# Altium integrated library Renesas Transistor.IntLib: 835 symbols (part 17 of 18)
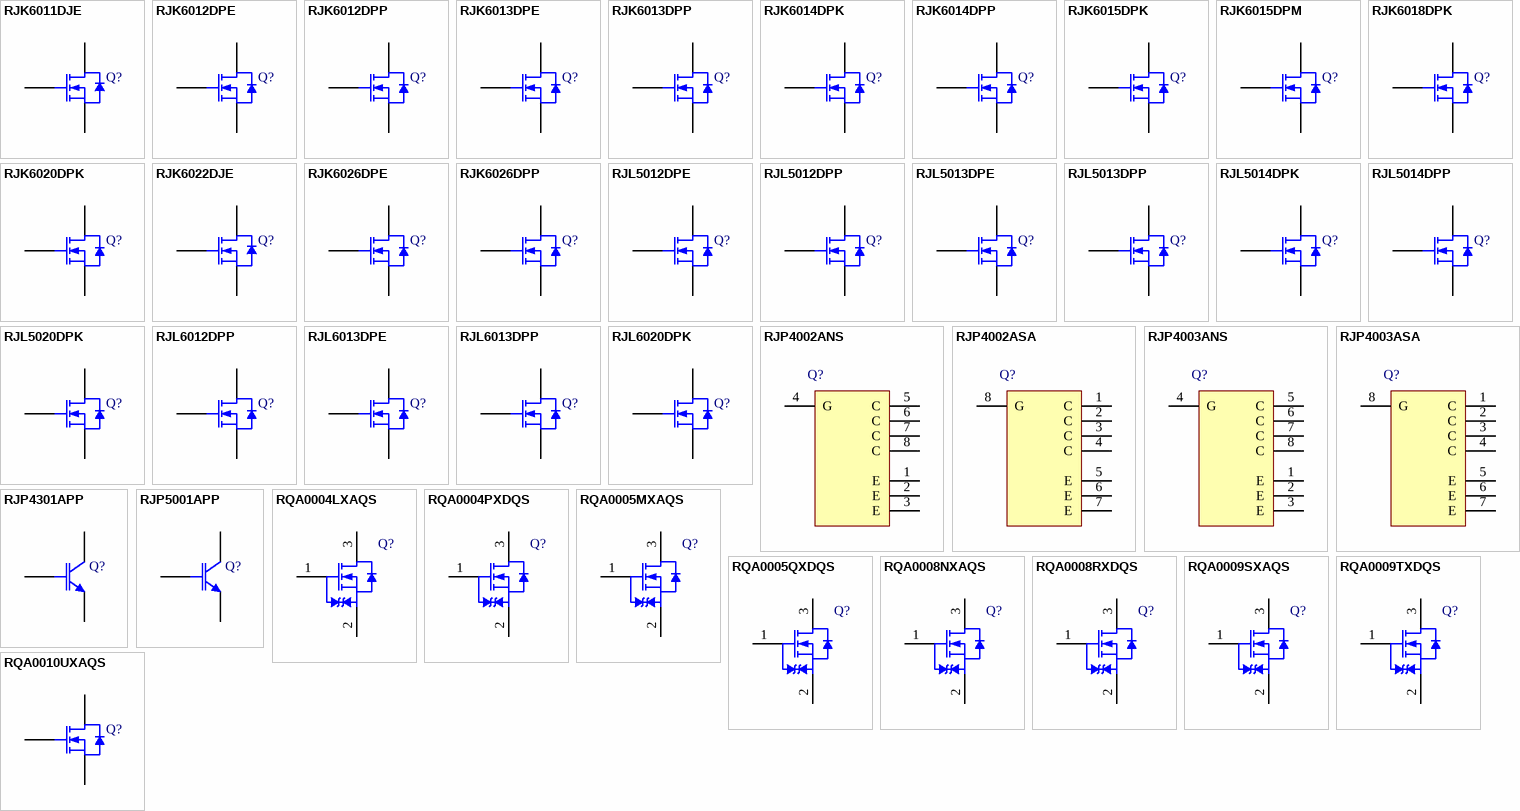
[diagram p38: symbols RJK6011DJE to RQA0010UXAQS]

## RJP4002ASA
designator Q?
Nch IGBT for Strobe Flash; Published: 30-Oct-2009; DatasheetVersion: Rev.1.00, Oct-2006; PackageVersion: Sep-2007; PackageReference: PTSP0008JB-B; Publisher: Altium Limited; PackageDescription: 8-Pin Plastic Thin Small Outline Package 0.65 mm Pitch (TSSOP-8); Code_JEITA: P-TSSOP8-4.4×3-0.65; ComponentLink1Description: Manufacturer Link; ComponentLink1URL: http://sg.renesas.com/fmwk.jsp?cnt=discrete_category_landing.jsp&fp=/products/discrete/; ComponentLink2Description: Datasheet; ComponentLink2URL: http://documentation.renesas.com/eng/products/transistor/rej03g1473_rjp4002asads.pdf; ComponentLink3Description: Packaging Specification; ComponentLink3URL: http://sg.renesas.com/media/products/common_info/package/pdf/transistor/code/ptsp0008jb_b.pdf
footprint PTSP0008JB-B_N (TSOP, 8-Leads, Body 3x4.4mm, Pitch 0.65mm, IPC Medium Density)
footprint PTSP0008JB-B_L (TSOP, 8-Leads, Body 3x4.4mm, Pitch 0.65mm, IPC High Density)
footprint PTSP0008JB-B_M (TSOP, 8-Leads, Body 3x4.4mm, Pitch 0.65mm, IPC Low Density)
pins: 1 C, 2 C, 3 C, 4 C, 5 E, 6 E, 7 E, 8 G

## RJP4003ANS
designator Q?
Nch IGBT for Strobe Flash; Published: 30-Oct-2009; DatasheetVersion: Rev.2.00, Nov-2008; PackageVersion: Jul-2006; PackageReference: PVSN0008JA-A; Publisher: Altium Limited; PackageDescription: 8-Pin Plastic Dual Lead-Flat Package 0.65 mm Pitch (VSON-8); Code_JEITA: P-VSON8-3x4.4-0.65; ComponentLink1Description: Manufacturer Link; ComponentLink1URL: http://sg.renesas.com/fmwk.jsp?cnt=discrete_category_landing.jsp&fp=/products/discrete/; ComponentLink2Description: Datasheet; ComponentLink2URL: http://documentation.renesas.com/eng/products/transistor/rej03g1474_rjp4003ansds.pdf; ComponentLink3Description: Packaging Specification; ComponentLink3URL: http://sg.renesas.com/media/products/common_info/package/pdf/transistor/code/pvsn0008ja_a.pdf
footprint PVSN0008JA-A (SOP, 8-Flat Leads, Body 3x4.4x0.9mm, Pitch 0.65mm)
pins: 1 E, 2 E, 3 E, 4 G, 5 C, 6 C, 7 C, 8 C

## RJP4003ASA
designator Q?
Nch IGBT for Strobe Flash; Published: 30-Oct-2009; DatasheetVersion: Rev.2.00, Nov-2008; PackageVersion: Sep-2007; PackageReference: PTSP0008JB-B; Publisher: Altium Limited; PackageDescription: 8-Pin Plastic Thin Small Outline Package 0.65 mm Pitch (TSSOP-8); Code_JEITA: P-TSSOP8-4.4×3-0.65; ComponentLink1Description: Manufacturer Link; ComponentLink1URL: http://sg.renesas.com/fmwk.jsp?cnt=discrete_category_landing.jsp&fp=/products/discrete/; ComponentLink2Description: Datasheet; ComponentLink2URL: http://documentation.renesas.com/eng/products/transistor/rej03g1475_rjp4003asads.pdf; ComponentLink3Description: Packaging Specification; ComponentLink3URL: http://sg.renesas.com/media/products/common_info/package/pdf/transistor/code/ptsp0008jb_b.pdf
footprint PTSP0008JB-B_N (TSOP, 8-Leads, Body 3x4.4mm, Pitch 0.65mm, IPC Medium Density)
footprint PTSP0008JB-B_L (TSOP, 8-Leads, Body 3x4.4mm, Pitch 0.65mm, IPC High Density)
footprint PTSP0008JB-B_M (TSOP, 8-Leads, Body 3x4.4mm, Pitch 0.65mm, IPC Low Density)
pins: 1 C, 2 C, 3 C, 4 C, 5 E, 6 E, 7 E, 8 G

## RJP4301APP
designator Q?
Nch IGBT for Strobe Flash; Published: 30-Oct-2009; DatasheetVersion: Rev.2.00, Feb-2009; PackageVersion: Sep-2005; PackageReference: PRSS0003AB-A; Publisher: Altium Limited; PackageDescription: TO, Thru-Hole, Vertical, Heatsink Mounted; 3 In-Line Leads; Pitch 2.54 mm (TO-220FN); ComponentLink1Description: Manufacturer Link; ComponentLink1URL: http://sg.renesas.com/fmwk.jsp?cnt=discrete_category_landing.jsp&fp=/products/discrete/; ComponentLink2Description: Datasheet; ComponentLink2URL: http://documentation.renesas.com/eng/products/transistor/rej03g1709_rjp4301appds.pdf; ComponentLink3Description: Packaging Specification; ComponentLink3URL: http://sg.renesas.com/media/products/common_info/package/pdf/transistor/code/prss0003ab_a.pdf
footprint PRSS0003AB-A (TO, Thru-Hole, Vertical, Heatsink Mounted; 3 In-Line Leads; Pitch 2.54 mm)
pins: 1 G, 2 C, 3 E

## RJP5001APP
designator Q?
Nch IGBT for Strobe Flash; Published: 30-Oct-2009; DatasheetVersion: Rev.1.00, Jul-2008; PackageVersion: Sep-2005; PackageReference: PRSS0003AB-A; Publisher: Altium Limited; PackageDescription: TO, Thru-Hole, Vertical, Heatsink Mounted; 3 In-Line Leads; Pitch 2.54 mm (TO-220FN); ComponentLink1Description: Manufacturer Link; ComponentLink1URL: http://sg.renesas.com/fmwk.jsp?cnt=discrete_category_landing.jsp&fp=/products/discrete/; ComponentLink2Description: Datasheet; ComponentLink2URL: http://documentation.renesas.com/eng/products/transistor/rej03g1710_rjp5001appds.pdf; ComponentLink3Description: Packaging Specification; ComponentLink3URL: http://sg.renesas.com/media/products/common_info/package/pdf/transistor/code/prss0003ab_a.pdf
footprint PRSS0003AB-A (TO, Thru-Hole, Vertical, Heatsink Mounted; 3 In-Line Leads; Pitch 2.54 mm)
pins: 1 G, 2 C, 3 E

## RQA0004LXAQS
designator Q?
Silicon N-Channel MOSFET; Published: 30-Oct-2009; DatasheetVersion: Rev.1.00, Jul-2007; PackageVersion: Jan-2005; PackageReference: PLZZ0004CA-A; Publisher: Altium Limited; PackageDescription: 3-Pin Plastic SOT-89 Package 1.5 mm Pitch, 4 mm Lead Span; Code_JEITA: SC-62; Code_IPC: SOT89; ComponentLink1Description: Manufacturer Link; ComponentLink1URL: http://sg.renesas.com/fmwk.jsp?cnt=discrete_category_landing.jsp&fp=/products/discrete/; ComponentLink2Description: Datasheet; ComponentLink2URL: http://documentation.renesas.com/eng/products/transistor/rej03g1567_rqa0004lxaqsds.pdf; ComponentLink3Description: Packaging Specification; ComponentLink3URL: http://sg.renesas.com/media/products/common_info/package/pdf/transistor/code/plzz0004ca_a.pdf
footprint PLZZ0004CA-A_N (SOT89, 3-Leads, Body 4.5x2.5 mm, Pitch 1.5mm, Lead Span 4mm, IPC Medium Density)
footprint PLZZ0004CA-A_L (SOT89, 3-Leads, Body 4.5x2.5 mm, Pitch 1.5mm, Lead Span 4mm, IPC High Density)
footprint PLZZ0004CA-A_M (SOT89, 3-Leads, Body 4.5x2.5 mm, Pitch 1.5mm, Lead Span 4mm, IPC Low Density)
pins: 1 G, 2 S, 3 D

## RQA0004PXDQS
designator Q?
Silicon N-Channel MOSFET; Published: 30-Oct-2009; DatasheetVersion: Rev.1.00, Dec-2006; PackageVersion: Jan-2005; PackageReference: PLZZ0004CA-A; Publisher: Altium Limited; PackageDescription: 3-Pin Plastic SOT-89 Package 1.5 mm Pitch, 4 mm Lead Span; Code_JEITA: SC-62; Code_IPC: SOT89; ComponentLink1Description: Manufacturer Link; ComponentLink1URL: http://sg.renesas.com/fmwk.jsp?cnt=discrete_category_landing.jsp&fp=/products/discrete/; ComponentLink2Description: Datasheet; ComponentLink2URL: http://documentation.renesas.com/eng/products/transistor/rej03g1489_rqa0004pxdqsds.pdf; ComponentLink3Description: Packaging Specification; ComponentLink3URL: http://sg.renesas.com/media/products/common_info/package/pdf/transistor/code/plzz0004ca_a.pdf
footprint PLZZ0004CA-A_N (SOT89, 3-Leads, Body 4.5x2.5 mm, Pitch 1.5mm, Lead Span 4mm, IPC Medium Density)
footprint PLZZ0004CA-A_L (SOT89, 3-Leads, Body 4.5x2.5 mm, Pitch 1.5mm, Lead Span 4mm, IPC High Density)
footprint PLZZ0004CA-A_M (SOT89, 3-Leads, Body 4.5x2.5 mm, Pitch 1.5mm, Lead Span 4mm, IPC Low Density)
pins: 1 G, 2 S, 3 D

## RQA0005MXAQS
designator Q?
Silicon N-Channel MOSFET; Published: 30-Oct-2009; DatasheetVersion: Rev.1.00, Jul-2007; PackageVersion: Jan-2005; PackageReference: PLZZ0004CA-A; Publisher: Altium Limited; PackageDescription: 3-Pin Plastic SOT-89 Package 1.5 mm Pitch, 4 mm Lead Span; Code_JEITA: SC-62; Code_IPC: SOT89; ComponentLink1Description: Manufacturer Link; ComponentLink1URL: http://sg.renesas.com/fmwk.jsp?cnt=discrete_category_landing.jsp&fp=/products/discrete/; ComponentLink2Description: Datasheet; ComponentLink2URL: http://documentation.renesas.com/eng/products/transistor/rej03g1568_rqa0005mxaqsds.pdf; ComponentLink3Description: Packaging Specification; ComponentLink3URL: http://sg.renesas.com/media/products/common_info/package/pdf/transistor/code/plzz0004ca_a.pdf
footprint PLZZ0004CA-A_N (SOT89, 3-Leads, Body 4.5x2.5 mm, Pitch 1.5mm, Lead Span 4mm, IPC Medium Density)
footprint PLZZ0004CA-A_L (SOT89, 3-Leads, Body 4.5x2.5 mm, Pitch 1.5mm, Lead Span 4mm, IPC High Density)
footprint PLZZ0004CA-A_M (SOT89, 3-Leads, Body 4.5x2.5 mm, Pitch 1.5mm, Lead Span 4mm, IPC Low Density)
pins: 1 G, 2 S, 3 D

## RQA0005QXDQS
designator Q?
Silicon N-Channel MOSFET; Published: 30-Oct-2009; DatasheetVersion: Rev.1.00, Oct-2006; PackageVersion: Jan-2005; PackageReference: PLZZ0004CA-A; Publisher: Altium Limited; PackageDescription: 3-Pin Plastic SOT-89 Package 1.5 mm Pitch, 4 mm Lead Span; Code_JEITA: SC-62; Code_IPC: SOT89; ComponentLink1Description: Manufacturer Link; ComponentLink1URL: http://sg.renesas.com/fmwk.jsp?cnt=discrete_category_landing.jsp&fp=/products/discrete/; ComponentLink2Description: Datasheet; ComponentLink2URL: http://documentation.renesas.com/eng/products/transistor/rej03g1325_rqa0005qxdqsds.pdf; ComponentLink3Description: Packaging Specification; ComponentLink3URL: http://sg.renesas.com/media/products/common_info/package/pdf/transistor/code/plzz0004ca_a.pdf
footprint PLZZ0004CA-A_N (SOT89, 3-Leads, Body 4.5x2.5 mm, Pitch 1.5mm, Lead Span 4mm, IPC Medium Density)
footprint PLZZ0004CA-A_L (SOT89, 3-Leads, Body 4.5x2.5 mm, Pitch 1.5mm, Lead Span 4mm, IPC High Density)
footprint PLZZ0004CA-A_M (SOT89, 3-Leads, Body 4.5x2.5 mm, Pitch 1.5mm, Lead Span 4mm, IPC Low Density)
pins: 1 G, 2 S, 3 D

## RQA0008NXAQS
designator Q?
Silicon N-Channel MOSFET; Published: 30-Oct-2009; DatasheetVersion: Rev.1.00, Jul-2007; PackageVersion: Jan-2005; PackageReference: PLZZ0004CA-A; Publisher: Altium Limited; PackageDescription: 3-Pin Plastic SOT-89 Package 1.5 mm Pitch, 4 mm Lead Span; Code_JEITA: SC-62; Code_IPC: SOT89; ComponentLink1Description: Manufacturer Link; ComponentLink1URL: http://sg.renesas.com/fmwk.jsp?cnt=discrete_category_landing.jsp&fp=/products/discrete/; ComponentLink2Description: Datasheet; ComponentLink2URL: http://documentation.renesas.com/eng/products/transistor/rej03g1569_rqa0008nxaqsds.pdf; ComponentLink3Description: Packaging Specification; ComponentLink3URL: http://sg.renesas.com/media/products/common_info/package/pdf/transistor/code/plzz0004ca_a.pdf
footprint PLZZ0004CA-A_N (SOT89, 3-Leads, Body 4.5x2.5 mm, Pitch 1.5mm, Lead Span 4mm, IPC Medium Density)
footprint PLZZ0004CA-A_L (SOT89, 3-Leads, Body 4.5x2.5 mm, Pitch 1.5mm, Lead Span 4mm, IPC High Density)
footprint PLZZ0004CA-A_M (SOT89, 3-Leads, Body 4.5x2.5 mm, Pitch 1.5mm, Lead Span 4mm, IPC Low Density)
pins: 1 G, 2 S, 3 D

## RQA0008RXDQS
designator Q?
Silicon N-Channel MOSFET; Published: 30-Oct-2009; DatasheetVersion: Rev.1.00, Oct-2006; PackageVersion: Jan-2005; PackageReference: PLZZ0004CA-A; Publisher: Altium Limited; PackageDescription: 3-Pin Plastic SOT-89 Package 1.5 mm Pitch, 4 mm Lead Span; Code_JEITA: SC-62; Code_IPC: SOT89; ComponentLink1Description: Manufacturer Link; ComponentLink1URL: http://sg.renesas.com/fmwk.jsp?cnt=discrete_category_landing.jsp&fp=/products/discrete/; ComponentLink2Description: Datasheet; ComponentLink2URL: http://documentation.renesas.com/eng/products/transistor/rej03g1326_rqa0008rxdqsds.pdf; ComponentLink3Description: Packaging Specification; ComponentLink3URL: http://sg.renesas.com/media/products/common_info/package/pdf/transistor/code/plzz0004ca_a.pdf
footprint PLZZ0004CA-A_N (SOT89, 3-Leads, Body 4.5x2.5 mm, Pitch 1.5mm, Lead Span 4mm, IPC Medium Density)
footprint PLZZ0004CA-A_L (SOT89, 3-Leads, Body 4.5x2.5 mm, Pitch 1.5mm, Lead Span 4mm, IPC High Density)
footprint PLZZ0004CA-A_M (SOT89, 3-Leads, Body 4.5x2.5 mm, Pitch 1.5mm, Lead Span 4mm, IPC Low Density)
pins: 1 G, 2 S, 3 D

## RQA0009SXAQS
designator Q?
Silicon N-Channel MOSFET; Published: 30-Oct-2009; DatasheetVersion: Rev.1.00, Jul-2007; PackageVersion: Jan-2005; PackageReference: PLZZ0004CA-A; Publisher: Altium Limited; PackageDescription: 3-Pin Plastic SOT-89 Package 1.5 mm Pitch, 4 mm Lead Span; Code_JEITA: SC-62; Code_IPC: SOT89; ComponentLink1Description: Manufacturer Link; ComponentLink1URL: http://sg.renesas.com/fmwk.jsp?cnt=discrete_category_landing.jsp&fp=/products/discrete/; ComponentLink2Description: Datasheet; ComponentLink2URL: http://documentation.renesas.com/eng/products/transistor/rej03g1566_rqa0009sxaqsds.pdf; ComponentLink3Description: Packaging Specification; ComponentLink3URL: http://sg.renesas.com/media/products/common_info/package/pdf/transistor/code/plzz0004ca_a.pdf
footprint PLZZ0004CA-A_N (SOT89, 3-Leads, Body 4.5x2.5 mm, Pitch 1.5mm, Lead Span 4mm, IPC Medium Density)
footprint PLZZ0004CA-A_L (SOT89, 3-Leads, Body 4.5x2.5 mm, Pitch 1.5mm, Lead Span 4mm, IPC High Density)
footprint PLZZ0004CA-A_M (SOT89, 3-Leads, Body 4.5x2.5 mm, Pitch 1.5mm, Lead Span 4mm, IPC Low Density)
pins: 1 G, 2 S, 3 D

## RQA0009TXDQS
designator Q?
Silicon N-Channel MOSFET; Published: 30-Oct-2009; DatasheetVersion: Rev.1.00, Jul-2007; PackageVersion: Jan-2005; PackageReference: PLZZ0004CA-A; Publisher: Altium Limited; PackageDescription: 3-Pin Plastic SOT-89 Package 1.5 mm Pitch, 4 mm Lead Span; Code_JEITA: SC-62; Code_IPC: SOT89; ComponentLink1Description: Manufacturer Link; ComponentLink1URL: http://sg.renesas.com/fmwk.jsp?cnt=discrete_category_landing.jsp&fp=/products/discrete/; ComponentLink2Description: Datasheet; ComponentLink2URL: http://documentation.renesas.com/eng/products/transistor/rej03g1520_rqa0009txdqsds.pdf; ComponentLink3Description: Packaging Specification; ComponentLink3URL: http://sg.renesas.com/media/products/common_info/package/pdf/transistor/code/plzz0004ca_a.pdf
footprint PLZZ0004CA-A_N (SOT89, 3-Leads, Body 4.5x2.5 mm, Pitch 1.5mm, Lead Span 4mm, IPC Medium Density)
footprint PLZZ0004CA-A_L (SOT89, 3-Leads, Body 4.5x2.5 mm, Pitch 1.5mm, Lead Span 4mm, IPC High Density)
footprint PLZZ0004CA-A_M (SOT89, 3-Leads, Body 4.5x2.5 mm, Pitch 1.5mm, Lead Span 4mm, IPC Low Density)
pins: 1 G, 2 S, 3 D

## RQA0010UXAQS
designator Q?
Silicon N-Channel MOSFET; Published: 30-Oct-2009; DatasheetVersion: Rev.2.00, Oct-2008; PackageVersion: Jan-2005; PackageReference: PLZZ0004CA-A; Publisher: Altium Limited; PackageDescription: 3-Pin Plastic SOT-89 Package 1.5 mm Pitch, 4 mm Lead Span; Code_JEITA: SC-62; Code_IPC: SOT89; ComponentLink1Description: Manufacturer Link; ComponentLink1URL: http://sg.renesas.com/fmwk.jsp?cnt=discrete_category_landing.jsp&fp=/products/discrete/; ComponentLink2Description: Datasheet; ComponentLink2URL: http://documentation.renesas.com/eng/products/transistor/rej03g1693_rqa0010uxaqsds.pdf; ComponentLink3Description: Packaging Specification; ComponentLink3URL: http://sg.renesas.com/media/products/common_info/package/pdf/transistor/code/plzz0004ca_a.pdf
footprint PLZZ0004CA-A_N (SOT89, 3-Leads, Body 4.5x2.5 mm, Pitch 1.5mm, Lead Span 4mm, IPC Medium Density)
footprint PLZZ0004CA-A_L (SOT89, 3-Leads, Body 4.5x2.5 mm, Pitch 1.5mm, Lead Span 4mm, IPC High Density)
footprint PLZZ0004CA-A_M (SOT89, 3-Leads, Body 4.5x2.5 mm, Pitch 1.5mm, Lead Span 4mm, IPC Low Density)
pins: 1 G, 2 S, 3 D

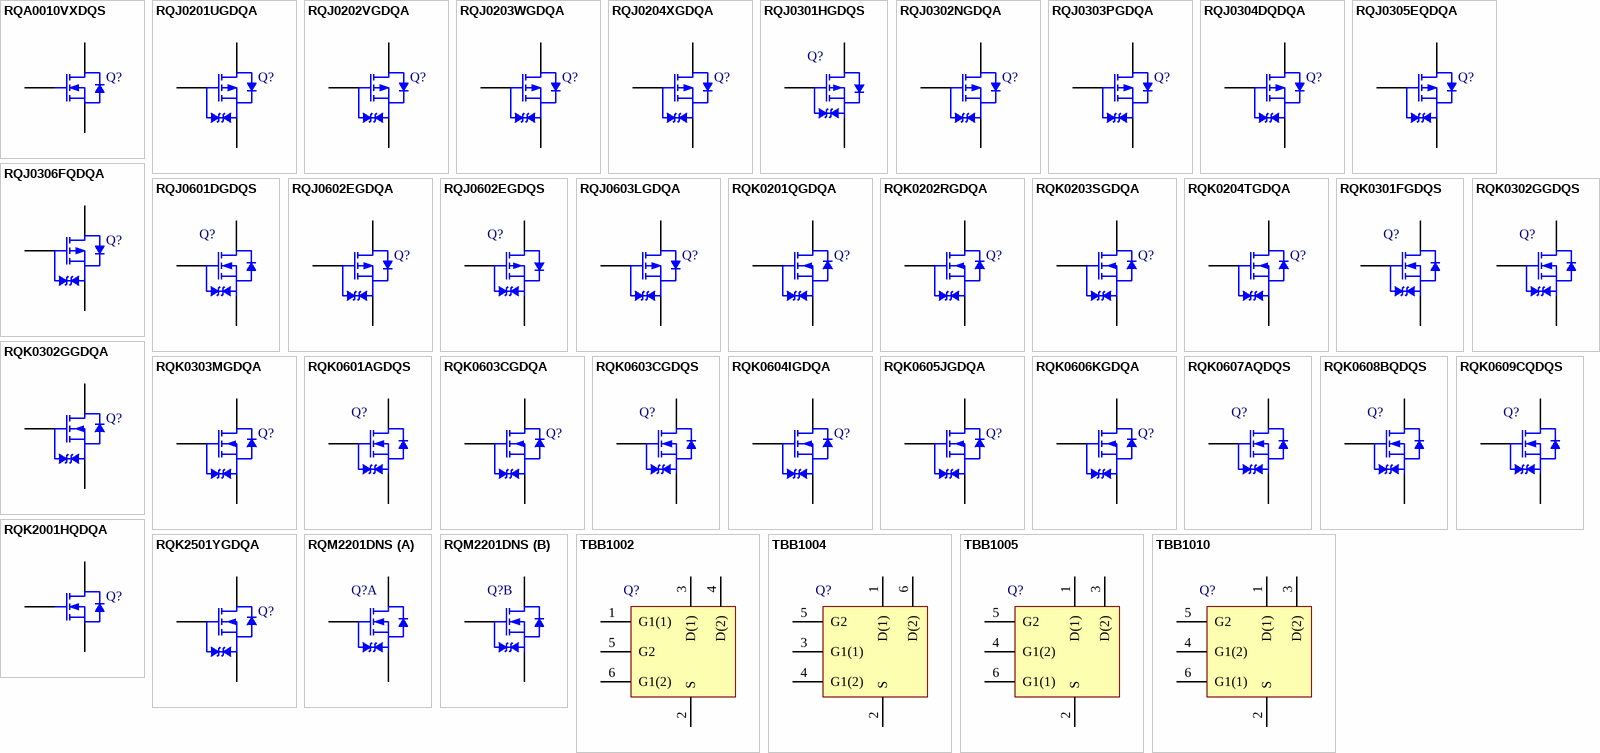
[diagram p21: symbols RQA0010VXDQS to TBB1010]

## RQA0010VXDQS
designator Q?
Silicon N-Channel MOSFET; Published: 30-Oct-2009; DatasheetVersion: Rev.2.00, Oct-2008; PackageVersion: Jan-2005; PackageReference: PLZZ0004CA-A; Publisher: Altium Limited; PackageDescription: 3-Pin Plastic SOT-89 Package 1.5 mm Pitch, 4 mm Lead Span; Code_JEITA: SC-62; Code_IPC: SOT89; ComponentLink1Description: Manufacturer Link; ComponentLink1URL: http://sg.renesas.com/fmwk.jsp?cnt=discrete_category_landing.jsp&fp=/products/discrete/; ComponentLink2Description: Datasheet; ComponentLink2URL: http://documentation.renesas.com/eng/products/transistor/rej03g1692_rqa0010vxdqsds.pdf; ComponentLink3Description: Packaging Specification; ComponentLink3URL: http://sg.renesas.com/media/products/common_info/package/pdf/transistor/code/plzz0004ca_a.pdf
footprint PLZZ0004CA-A_N (SOT89, 3-Leads, Body 4.5x2.5 mm, Pitch 1.5mm, Lead Span 4mm, IPC Medium Density)
footprint PLZZ0004CA-A_L (SOT89, 3-Leads, Body 4.5x2.5 mm, Pitch 1.5mm, Lead Span 4mm, IPC High Density)
footprint PLZZ0004CA-A_M (SOT89, 3-Leads, Body 4.5x2.5 mm, Pitch 1.5mm, Lead Span 4mm, IPC Low Density)
pins: 1 G, 2 S, 3 D

## RQJ0201UGDQA
designator Q?
Silicon P-Channel MOSFET, Power Switching; Published: 30-Oct-2009; DatasheetVersion: Rev.3.00, May-2006; PackageVersion: Sep-2005; PackageReference: PLSP0003ZB-A; Publisher: Altium Limited; PackageDescription: 3-Pin Plastic SOT-23 Package 0.95 mm Pitch, 2.8 mm Lead Span - Alternate Lead Configuration; Code_JEITA: SC-59A; ComponentLink1Description: Manufacturer Link; ComponentLink1URL: http://sg.renesas.com/fmwk.jsp?cnt=discrete_category_landing.jsp&fp=/products/discrete/; ComponentLink2Description: Datasheet; ComponentLink2URL: http://documentation.renesas.com/eng/products/diode/rej03g1317_rqj0201ugdqads.pdf; ComponentLink3Description: Packaging Specification; ComponentLink3URL: http://sg.renesas.com/media/products/common_info/package/pdf/transistor/code/plsp0003zb_a.pdf
footprint PLSP0003ZB-A_N (SOT23, 3-Leads, Body 2.9x1.5mm, Pitch 0.95mm, Lead Span 2.8mm - Alternate Lead Configuration, IPC Medium Density)
footprint PLSP0003ZB-A_L (SOT23, 3-Leads, Body 2.9x1.5mm, Pitch 0.95mm, Lead Span 2.8mm - Alternate Lead Configuration, IPC High Density)
footprint PLSP0003ZB-A_M (SOT23, 3-Leads, Body 2.9x1.5mm, Pitch 0.95mm, Lead Span 2.8mm - Alternate Lead Configuration, IPC Low Density)
pins: 1 S, 2 G, 3 D

## RQJ0202VGDQA
designator Q?
Silicon P-Channel MOSFET, Power Switching; Published: 30-Oct-2009; DatasheetVersion: Rev.3.00, May-2006; PackageVersion: Sep-2005; PackageReference: PLSP0003ZB-A; Publisher: Altium Limited; PackageDescription: 3-Pin Plastic SOT-23 Package 0.95 mm Pitch, 2.8 mm Lead Span - Alternate Lead Configuration; Code_JEITA: SC-59A; ComponentLink1Description: Manufacturer Link; ComponentLink1URL: http://sg.renesas.com/fmwk.jsp?cnt=discrete_category_landing.jsp&fp=/products/discrete/; ComponentLink2Description: Datasheet; ComponentLink2URL: http://documentation.renesas.com/eng/products/diode/rej03g1318_rqj0202vgdqads.pdf; ComponentLink3Description: Packaging Specification; ComponentLink3URL: http://sg.renesas.com/media/products/common_info/package/pdf/transistor/code/plsp0003zb_a.pdf
footprint PLSP0003ZB-A_N (SOT23, 3-Leads, Body 2.9x1.5mm, Pitch 0.95mm, Lead Span 2.8mm - Alternate Lead Configuration, IPC Medium Density)
footprint PLSP0003ZB-A_L (SOT23, 3-Leads, Body 2.9x1.5mm, Pitch 0.95mm, Lead Span 2.8mm - Alternate Lead Configuration, IPC High Density)
footprint PLSP0003ZB-A_M (SOT23, 3-Leads, Body 2.9x1.5mm, Pitch 0.95mm, Lead Span 2.8mm - Alternate Lead Configuration, IPC Low Density)
pins: 1 S, 2 G, 3 D

## RQJ0203WGDQA
designator Q?
Silicon P-Channel MOSFET, Power Switching; Published: 30-Oct-2009; DatasheetVersion: Rev.3.00, Apr-2006; PackageVersion: Sep-2005; PackageReference: PLSP0003ZB-A; Publisher: Altium Limited; PackageDescription: 3-Pin Plastic SOT-23 Package 0.95 mm Pitch, 2.8 mm Lead Span - Alternate Lead Configuration; Code_JEITA: SC-59A; ComponentLink1Description: Manufacturer Link; ComponentLink1URL: http://sg.renesas.com/fmwk.jsp?cnt=discrete_category_landing.jsp&fp=/products/discrete/; ComponentLink2Description: Datasheet; ComponentLink2URL: http://documentation.renesas.com/eng/products/diode/rej03g1319_rqj0203wgdqads.pdf; ComponentLink3Description: Packaging Specification; ComponentLink3URL: http://sg.renesas.com/media/products/common_info/package/pdf/transistor/code/plsp0003zb_a.pdf
footprint PLSP0003ZB-A_N (SOT23, 3-Leads, Body 2.9x1.5mm, Pitch 0.95mm, Lead Span 2.8mm - Alternate Lead Configuration, IPC Medium Density)
footprint PLSP0003ZB-A_L (SOT23, 3-Leads, Body 2.9x1.5mm, Pitch 0.95mm, Lead Span 2.8mm - Alternate Lead Configuration, IPC High Density)
footprint PLSP0003ZB-A_M (SOT23, 3-Leads, Body 2.9x1.5mm, Pitch 0.95mm, Lead Span 2.8mm - Alternate Lead Configuration, IPC Low Density)
pins: 1 S, 2 G, 3 D

## RQJ0204XGDQA
designator Q?
Silicon P-Channel MOSFET, Power Switching; Published: 30-Oct-2009; DatasheetVersion: Rev.3.00, May-2006; PackageVersion: Sep-2005; PackageReference: PLSP0003ZB-A; Publisher: Altium Limited; PackageDescription: 3-Pin Plastic SOT-23 Package 0.95 mm Pitch, 2.8 mm Lead Span - Alternate Lead Configuration; Code_JEITA: SC-59A; ComponentLink1Description: Manufacturer Link; ComponentLink1URL: http://sg.renesas.com/fmwk.jsp?cnt=discrete_category_landing.jsp&fp=/products/discrete/; ComponentLink2Description: Datasheet; ComponentLink2URL: http://documentation.renesas.com/eng/products/diode/rej03g1320_rqj0204xgdqads.pdf; ComponentLink3Description: Packaging Specification; ComponentLink3URL: http://sg.renesas.com/media/products/common_info/package/pdf/transistor/code/plsp0003zb_a.pdf
footprint PLSP0003ZB-A_N (SOT23, 3-Leads, Body 2.9x1.5mm, Pitch 0.95mm, Lead Span 2.8mm - Alternate Lead Configuration, IPC Medium Density)
footprint PLSP0003ZB-A_L (SOT23, 3-Leads, Body 2.9x1.5mm, Pitch 0.95mm, Lead Span 2.8mm - Alternate Lead Configuration, IPC High Density)
footprint PLSP0003ZB-A_M (SOT23, 3-Leads, Body 2.9x1.5mm, Pitch 0.95mm, Lead Span 2.8mm - Alternate Lead Configuration, IPC Low Density)
pins: 1 S, 2 G, 3 D

## RQJ0301HGDQS
designator Q?
Silicon P-Channel MOSFET, Power Switching; Published: 30-Oct-2009; DatasheetVersion: Rev.3.00, Jun-2006; PackageVersion: Jan-2005; PackageReference: PLZZ0004CA-A; Publisher: Altium Limited; PackageDescription: 3-Pin Plastic SOT-89 Package 1.5 mm Pitch, 4 mm Lead Span; Code_JEITA: SC-62; Code_IPC: SOT89; ComponentLink1Description: Manufacturer Link; ComponentLink1URL: http://sg.renesas.com/fmwk.jsp?cnt=discrete_category_landing.jsp&fp=/products/discrete/; ComponentLink2Description: Datasheet; ComponentLink2URL: http://documentation.renesas.com/eng/products/transistor/rej03g1265_rqj0301hgdqsds.pdf; ComponentLink3Description: Packaging Specification; ComponentLink3URL: http://sg.renesas.com/media/products/common_info/package/pdf/transistor/code/plzz0004ca_a.pdf
footprint PLZZ0004CA-A_N (SOT89, 3-Leads, Body 4.5x2.5 mm, Pitch 1.5mm, Lead Span 4mm, IPC Medium Density)
footprint PLZZ0004CA-A_L (SOT89, 3-Leads, Body 4.5x2.5 mm, Pitch 1.5mm, Lead Span 4mm, IPC High Density)
footprint PLZZ0004CA-A_M (SOT89, 3-Leads, Body 4.5x2.5 mm, Pitch 1.5mm, Lead Span 4mm, IPC Low Density)
pins: 1 G, 2 D, 3 S

## RQJ0302NGDQA
designator Q?
Silicon P-Channel MOSFET, Power Switching; Published: 30-Oct-2009; DatasheetVersion: Rev.4.00, May-2006; PackageVersion: Sep-2005; PackageReference: PLSP0003ZB-A; Publisher: Altium Limited; PackageDescription: 3-Pin Plastic SOT-23 Package 0.95 mm Pitch, 2.8 mm Lead Span - Alternate Lead Configuration; Code_JEITA: SC-59A; ComponentLink1Description: Manufacturer Link; ComponentLink1URL: http://sg.renesas.com/fmwk.jsp?cnt=discrete_category_landing.jsp&fp=/products/discrete/; ComponentLink2Description: Datasheet; ComponentLink2URL: http://documentation.renesas.com/eng/products/transistor/rej03g1271_rqj0302ngdqads.pdf; ComponentLink3Description: Packaging Specification; ComponentLink3URL: http://sg.renesas.com/media/products/common_info/package/pdf/transistor/code/plsp0003zb_a.pdf
footprint PLSP0003ZB-A_N (SOT23, 3-Leads, Body 2.9x1.5mm, Pitch 0.95mm, Lead Span 2.8mm - Alternate Lead Configuration, IPC Medium Density)
footprint PLSP0003ZB-A_L (SOT23, 3-Leads, Body 2.9x1.5mm, Pitch 0.95mm, Lead Span 2.8mm - Alternate Lead Configuration, IPC High Density)
footprint PLSP0003ZB-A_M (SOT23, 3-Leads, Body 2.9x1.5mm, Pitch 0.95mm, Lead Span 2.8mm - Alternate Lead Configuration, IPC Low Density)
pins: 1 S, 2 G, 3 D

## RQJ0303PGDQA
designator Q?
Silicon P-Channel MOSFET, Power Switching; Published: 30-Oct-2009; DatasheetVersion: Rev.4.00, May-2006; PackageVersion: Sep-2005; PackageReference: PLSP0003ZB-A; Publisher: Altium Limited; PackageDescription: 3-Pin Plastic SOT-23 Package 0.95 mm Pitch, 2.8 mm Lead Span - Alternate Lead Configuration; Code_JEITA: SC-59A; ComponentLink1Description: Manufacturer Link; ComponentLink1URL: http://sg.renesas.com/fmwk.jsp?cnt=discrete_category_landing.jsp&fp=/products/discrete/; ComponentLink2Description: Datasheet; ComponentLink2URL: http://documentation.renesas.com/eng/products/transistor/rej03g1272_rqj0303pgdqads.pdf; ComponentLink3Description: Packaging Specification; ComponentLink3URL: http://sg.renesas.com/media/products/common_info/package/pdf/transistor/code/plsp0003zb_a.pdf
footprint PLSP0003ZB-A_N (SOT23, 3-Leads, Body 2.9x1.5mm, Pitch 0.95mm, Lead Span 2.8mm - Alternate Lead Configuration, IPC Medium Density)
footprint PLSP0003ZB-A_L (SOT23, 3-Leads, Body 2.9x1.5mm, Pitch 0.95mm, Lead Span 2.8mm - Alternate Lead Configuration, IPC High Density)
footprint PLSP0003ZB-A_M (SOT23, 3-Leads, Body 2.9x1.5mm, Pitch 0.95mm, Lead Span 2.8mm - Alternate Lead Configuration, IPC Low Density)
pins: 1 S, 2 G, 3 D

## RQJ0304DQDQA
designator Q?
Silicon P-Channel MOSFET, Power Switching; Published: 30-Oct-2009; DatasheetVersion: Rev.1.00, Jul-2008; PackageVersion: Sep-2005; PackageReference: PLSP0003ZB-A; Publisher: Altium Limited; PackageDescription: 3-Pin Plastic SOT-23 Package 0.95 mm Pitch, 2.8 mm Lead Span - Alternate Lead Configuration; Code_JEITA: SC-59A; ComponentLink1Description: Manufacturer Link; ComponentLink1URL: http://sg.renesas.com/fmwk.jsp?cnt=discrete_category_landing.jsp&fp=/products/discrete/; ComponentLink2Description: Datasheet; ComponentLink2URL: http://documentation.renesas.com/eng/products/transistor/rej03g1717_rqj0304dqdqads.pdf; ComponentLink3Description: Packaging Specification; ComponentLink3URL: http://sg.renesas.com/media/products/common_info/package/pdf/transistor/code/plsp0003zb_a.pdf
footprint PLSP0003ZB-A_N (SOT23, 3-Leads, Body 2.9x1.5mm, Pitch 0.95mm, Lead Span 2.8mm - Alternate Lead Configuration, IPC Medium Density)
footprint PLSP0003ZB-A_L (SOT23, 3-Leads, Body 2.9x1.5mm, Pitch 0.95mm, Lead Span 2.8mm - Alternate Lead Configuration, IPC High Density)
footprint PLSP0003ZB-A_M (SOT23, 3-Leads, Body 2.9x1.5mm, Pitch 0.95mm, Lead Span 2.8mm - Alternate Lead Configuration, IPC Low Density)
pins: 1 S, 2 G, 3 D

## RQJ0305EQDQA
designator Q?
Silicon P-Channel MOSFET, Power Switching; Published: 30-Oct-2009; DatasheetVersion: Rev.1.00, Jul-2008; PackageVersion: Sep-2005; PackageReference: PLSP0003ZB-A; Publisher: Altium Limited; PackageDescription: 3-Pin Plastic SOT-23 Package 0.95 mm Pitch, 2.8 mm Lead Span - Alternate Lead Configuration; Code_JEITA: SC-59A; ComponentLink1Description: Manufacturer Link; ComponentLink1URL: http://sg.renesas.com/fmwk.jsp?cnt=discrete_category_landing.jsp&fp=/products/discrete/; ComponentLink2Description: Datasheet; ComponentLink2URL: http://documentation.renesas.com/eng/products/transistor/rej03g1718_rqj0305eqdqads.pdf; ComponentLink3Description: Packaging Specification; ComponentLink3URL: http://sg.renesas.com/media/products/common_info/package/pdf/transistor/code/plsp0003zb_a.pdf
footprint PLSP0003ZB-A_N (SOT23, 3-Leads, Body 2.9x1.5mm, Pitch 0.95mm, Lead Span 2.8mm - Alternate Lead Configuration, IPC Medium Density)
footprint PLSP0003ZB-A_L (SOT23, 3-Leads, Body 2.9x1.5mm, Pitch 0.95mm, Lead Span 2.8mm - Alternate Lead Configuration, IPC High Density)
footprint PLSP0003ZB-A_M (SOT23, 3-Leads, Body 2.9x1.5mm, Pitch 0.95mm, Lead Span 2.8mm - Alternate Lead Configuration, IPC Low Density)
pins: 1 S, 2 G, 3 D

## RQJ0306FQDQA
designator Q?
Silicon P-Channel MOSFET, Power Switching; Published: 30-Oct-2009; DatasheetVersion: Rev.1.00, Jul-2008; PackageVersion: Sep-2005; PackageReference: PLSP0003ZB-A; Publisher: Altium Limited; PackageDescription: 3-Pin Plastic SOT-23 Package 0.95 mm Pitch, 2.8 mm Lead Span - Alternate Lead Configuration; Code_JEITA: SC-59A; ComponentLink1Description: Manufacturer Link; ComponentLink1URL: http://sg.renesas.com/fmwk.jsp?cnt=discrete_category_landing.jsp&fp=/products/discrete/; ComponentLink2Description: Datasheet; ComponentLink2URL: http://documentation.renesas.com/eng/products/transistor/rej03g1719_rqj0306fqdqads.pdf; ComponentLink3Description: Packaging Specification; ComponentLink3URL: http://sg.renesas.com/media/products/common_info/package/pdf/transistor/code/plsp0003zb_a.pdf
footprint PLSP0003ZB-A_N (SOT23, 3-Leads, Body 2.9x1.5mm, Pitch 0.95mm, Lead Span 2.8mm - Alternate Lead Configuration, IPC Medium Density)
footprint PLSP0003ZB-A_L (SOT23, 3-Leads, Body 2.9x1.5mm, Pitch 0.95mm, Lead Span 2.8mm - Alternate Lead Configuration, IPC High Density)
footprint PLSP0003ZB-A_M (SOT23, 3-Leads, Body 2.9x1.5mm, Pitch 0.95mm, Lead Span 2.8mm - Alternate Lead Configuration, IPC Low Density)
pins: 1 S, 2 G, 3 D

## RQJ0601DGDQS
designator Q?
Silicon N-Channel Power MOSFET, Power Switching; Published: 30-Oct-2009; DatasheetVersion: Rev.3.00, Jun-2006; PackageVersion: Jan-2005; PackageReference: PLZZ0004CA-A; Publisher: Altium Limited; PackageDescription: 3-Pin Plastic SOT-89 Package 1.5 mm Pitch, 4 mm Lead Span; Code_JEITA: SC-62; Code_IPC: SOT89; ComponentLink1Description: Manufacturer Link; ComponentLink1URL: http://sg.renesas.com/fmwk.jsp?cnt=discrete_category_landing.jsp&fp=/products/discrete/; ComponentLink2Description: Datasheet; ComponentLink2URL: http://documentation.renesas.com/eng/products/transistor/rej03g1266_rqj0601dgdqsds.pdf; ComponentLink3Description: Packaging Specification; ComponentLink3URL: http://sg.renesas.com/media/products/common_info/package/pdf/transistor/code/plzz0004ca_a.pdf
footprint PLZZ0004CA-A_N (SOT89, 3-Leads, Body 4.5x2.5 mm, Pitch 1.5mm, Lead Span 4mm, IPC Medium Density)
footprint PLZZ0004CA-A_L (SOT89, 3-Leads, Body 4.5x2.5 mm, Pitch 1.5mm, Lead Span 4mm, IPC High Density)
footprint PLZZ0004CA-A_M (SOT89, 3-Leads, Body 4.5x2.5 mm, Pitch 1.5mm, Lead Span 4mm, IPC Low Density)
pins: 1 G, 2 D, 3 S

## RQJ0602EGDQA
designator Q?
Silicon P-Channel MOSFET, Power Switching; Published: 30-Oct-2009; DatasheetVersion: Rev.4.00, May-2006; PackageVersion: Sep-2005; PackageReference: PLSP0003ZB-A; Publisher: Altium Limited; PackageDescription: 3-Pin Plastic SOT-23 Package 0.95 mm Pitch, 2.8 mm Lead Span - Alternate Lead Configuration; Code_JEITA: SC-59A; ComponentLink1Description: Manufacturer Link; ComponentLink1URL: http://sg.renesas.com/fmwk.jsp?cnt=discrete_category_landing.jsp&fp=/products/discrete/; ComponentLink2Description: Datasheet; ComponentLink2URL: http://documentation.renesas.com/eng/products/transistor/rej03g1273_rqj0602egdqads.pdf; ComponentLink3Description: Packaging Specification; ComponentLink3URL: http://sg.renesas.com/media/products/common_info/package/pdf/transistor/code/plsp0003zb_a.pdf
footprint PLSP0003ZB-A_N (SOT23, 3-Leads, Body 2.9x1.5mm, Pitch 0.95mm, Lead Span 2.8mm - Alternate Lead Configuration, IPC Medium Density)
footprint PLSP0003ZB-A_L (SOT23, 3-Leads, Body 2.9x1.5mm, Pitch 0.95mm, Lead Span 2.8mm - Alternate Lead Configuration, IPC High Density)
footprint PLSP0003ZB-A_M (SOT23, 3-Leads, Body 2.9x1.5mm, Pitch 0.95mm, Lead Span 2.8mm - Alternate Lead Configuration, IPC Low Density)
pins: 1 S, 2 G, 3 D

## RQJ0602EGDQS
designator Q?
Silicon P-Channel MOSFET, Power Switching; Published: 30-Oct-2009; DatasheetVersion: Rev.3.00, Jun-2006; PackageVersion: Jan-2005; PackageReference: PLZZ0004CA-A; Publisher: Altium Limited; PackageDescription: 3-Pin Plastic SOT-89 Package 1.5 mm Pitch, 4 mm Lead Span; Code_JEITA: SC-62; Code_IPC: SOT89; ComponentLink1Description: Manufacturer Link; ComponentLink1URL: http://sg.renesas.com/fmwk.jsp?cnt=discrete_category_landing.jsp&fp=/products/discrete/; ComponentLink2Description: Datasheet; ComponentLink2URL: http://documentation.renesas.com/eng/products/transistor/rej03g1268_rqj0602egdqsds.pdf; ComponentLink3Description: Packaging Specification; ComponentLink3URL: http://sg.renesas.com/media/products/common_info/package/pdf/transistor/code/plzz0004ca_a.pdf
footprint PLZZ0004CA-A_N (SOT89, 3-Leads, Body 4.5x2.5 mm, Pitch 1.5mm, Lead Span 4mm, IPC Medium Density)
footprint PLZZ0004CA-A_L (SOT89, 3-Leads, Body 4.5x2.5 mm, Pitch 1.5mm, Lead Span 4mm, IPC High Density)
footprint PLZZ0004CA-A_M (SOT89, 3-Leads, Body 4.5x2.5 mm, Pitch 1.5mm, Lead Span 4mm, IPC Low Density)
pins: 1 G, 2 D, 3 S

## RQJ0603LGDQA
designator Q?
Silicon P-Channel MOSFET, Power Switching; Published: 30-Oct-2009; DatasheetVersion: Rev.4.00, May-2006; PackageVersion: Sep-2005; PackageReference: PLSP0003ZB-A; Publisher: Altium Limited; PackageDescription: 3-Pin Plastic SOT-23 Package 0.95 mm Pitch, 2.8 mm Lead Span - Alternate Lead Configuration; Code_JEITA: SC-59A; ComponentLink1Description: Manufacturer Link; ComponentLink1URL: http://sg.renesas.com/fmwk.jsp?cnt=discrete_category_landing.jsp&fp=/products/discrete/; ComponentLink2Description: Datasheet; ComponentLink2URL: http://documentation.renesas.com/eng/products/transistor/rej03g1274_rqj0603lgdqads.pdf; ComponentLink3Description: Packaging Specification; ComponentLink3URL: http://sg.renesas.com/media/products/common_info/package/pdf/transistor/code/plsp0003zb_a.pdf
footprint PLSP0003ZB-A_N (SOT23, 3-Leads, Body 2.9x1.5mm, Pitch 0.95mm, Lead Span 2.8mm - Alternate Lead Configuration, IPC Medium Density)
footprint PLSP0003ZB-A_L (SOT23, 3-Leads, Body 2.9x1.5mm, Pitch 0.95mm, Lead Span 2.8mm - Alternate Lead Configuration, IPC High Density)
footprint PLSP0003ZB-A_M (SOT23, 3-Leads, Body 2.9x1.5mm, Pitch 0.95mm, Lead Span 2.8mm - Alternate Lead Configuration, IPC Low Density)
pins: 1 S, 2 G, 3 D

## RQK0201QGDQA
designator Q?
Silicon N-Channel MOSFET, Power Switching; Published: 30-Oct-2009; DatasheetVersion: Rev.3.00, Jun-2006; PackageVersion: Sep-2005; PackageReference: PLSP0003ZB-A; Publisher: Altium Limited; PackageDescription: 3-Pin Plastic SOT-23 Package 0.95 mm Pitch, 2.8 mm Lead Span - Alternate Lead Configuration; Code_JEITA: SC-59A; ComponentLink1Description: Manufacturer Link; ComponentLink1URL: http://sg.renesas.com/fmwk.jsp?cnt=discrete_category_landing.jsp&fp=/products/discrete/; ComponentLink2Description: Datasheet; ComponentLink2URL: http://documentation.renesas.com/eng/products/transistor/rej03g1321_rqk0201qgdqads.pdf; ComponentLink3Description: Packaging Specification; ComponentLink3URL: http://sg.renesas.com/media/products/common_info/package/pdf/transistor/code/plsp0003zb_a.pdf
footprint PLSP0003ZB-A_N (SOT23, 3-Leads, Body 2.9x1.5mm, Pitch 0.95mm, Lead Span 2.8mm - Alternate Lead Configuration, IPC Medium Density)
footprint PLSP0003ZB-A_L (SOT23, 3-Leads, Body 2.9x1.5mm, Pitch 0.95mm, Lead Span 2.8mm - Alternate Lead Configuration, IPC High Density)
footprint PLSP0003ZB-A_M (SOT23, 3-Leads, Body 2.9x1.5mm, Pitch 0.95mm, Lead Span 2.8mm - Alternate Lead Configuration, IPC Low Density)
pins: 1 S, 2 G, 3 D

## RQK0202RGDQA
designator Q?
Silicon N-Channel MOSFET, Power Switching; Published: 30-Oct-2009; DatasheetVersion: Rev.3.00, Jun-2006; PackageVersion: Sep-2005; PackageReference: PLSP0003ZB-A; Publisher: Altium Limited; PackageDescription: 3-Pin Plastic SOT-23 Package 0.95 mm Pitch, 2.8 mm Lead Span - Alternate Lead Configuration; Code_JEITA: SC-59A; ComponentLink1Description: Manufacturer Link; ComponentLink1URL: http://sg.renesas.com/fmwk.jsp?cnt=discrete_category_landing.jsp&fp=/products/discrete/; ComponentLink2Description: Datasheet; ComponentLink2URL: http://documentation.renesas.com/eng/products/transistor/rej03g1322_rqk0202rgdqads.pdf; ComponentLink3Description: Packaging Specification; ComponentLink3URL: http://sg.renesas.com/media/products/common_info/package/pdf/transistor/code/plsp0003zb_a.pdf
footprint PLSP0003ZB-A_N (SOT23, 3-Leads, Body 2.9x1.5mm, Pitch 0.95mm, Lead Span 2.8mm - Alternate Lead Configuration, IPC Medium Density)
footprint PLSP0003ZB-A_L (SOT23, 3-Leads, Body 2.9x1.5mm, Pitch 0.95mm, Lead Span 2.8mm - Alternate Lead Configuration, IPC High Density)
footprint PLSP0003ZB-A_M (SOT23, 3-Leads, Body 2.9x1.5mm, Pitch 0.95mm, Lead Span 2.8mm - Alternate Lead Configuration, IPC Low Density)
pins: 1 S, 2 G, 3 D

## RQK0203SGDQA
designator Q?
Silicon N-Channel MOSFET, Power Switching; Published: 30-Oct-2009; DatasheetVersion: Rev.3.00, Jun-2006; PackageVersion: Sep-2005; PackageReference: PLSP0003ZB-A; Publisher: Altium Limited; PackageDescription: 3-Pin Plastic SOT-23 Package 0.95 mm Pitch, 2.8 mm Lead Span - Alternate Lead Configuration; Code_JEITA: SC-59A; ComponentLink1Description: Manufacturer Link; ComponentLink1URL: http://sg.renesas.com/fmwk.jsp?cnt=discrete_category_landing.jsp&fp=/products/discrete/; ComponentLink2Description: Datasheet; ComponentLink2URL: http://documentation.renesas.com/eng/products/transistor/rej03g1323_rqk0203sgdqads.pdf; ComponentLink3Description: Packaging Specification; ComponentLink3URL: http://sg.renesas.com/media/products/common_info/package/pdf/transistor/code/plsp0003zb_a.pdf
footprint PLSP0003ZB-A_N (SOT23, 3-Leads, Body 2.9x1.5mm, Pitch 0.95mm, Lead Span 2.8mm - Alternate Lead Configuration, IPC Medium Density)
footprint PLSP0003ZB-A_L (SOT23, 3-Leads, Body 2.9x1.5mm, Pitch 0.95mm, Lead Span 2.8mm - Alternate Lead Configuration, IPC High Density)
footprint PLSP0003ZB-A_M (SOT23, 3-Leads, Body 2.9x1.5mm, Pitch 0.95mm, Lead Span 2.8mm - Alternate Lead Configuration, IPC Low Density)
pins: 1 S, 2 G, 3 D

## RQK0204TGDQA
designator Q?
Silicon N-Channel MOSFET, Power Switching; Published: 30-Oct-2009; DatasheetVersion: Rev.3.00, Jun-2006; PackageVersion: Sep-2005; PackageReference: PLSP0003ZB-A; Publisher: Altium Limited; PackageDescription: 3-Pin Plastic SOT-23 Package 0.95 mm Pitch, 2.8 mm Lead Span - Alternate Lead Configuration; Code_JEITA: SC-59A; ComponentLink1Description: Manufacturer Link; ComponentLink1URL: http://sg.renesas.com/fmwk.jsp?cnt=discrete_category_landing.jsp&fp=/products/discrete/; ComponentLink2Description: Datasheet; ComponentLink2URL: http://documentation.renesas.com/eng/products/transistor/rej03g1324_rqk0204tgdqads.pdf; ComponentLink3Description: Packaging Specification; ComponentLink3URL: http://sg.renesas.com/media/products/common_info/package/pdf/transistor/code/plsp0003zb_a.pdf
footprint PLSP0003ZB-A_N (SOT23, 3-Leads, Body 2.9x1.5mm, Pitch 0.95mm, Lead Span 2.8mm - Alternate Lead Configuration, IPC Medium Density)
footprint PLSP0003ZB-A_L (SOT23, 3-Leads, Body 2.9x1.5mm, Pitch 0.95mm, Lead Span 2.8mm - Alternate Lead Configuration, IPC High Density)
footprint PLSP0003ZB-A_M (SOT23, 3-Leads, Body 2.9x1.5mm, Pitch 0.95mm, Lead Span 2.8mm - Alternate Lead Configuration, IPC Low Density)
pins: 1 S, 2 G, 3 D

## RQK0301FGDQS
designator Q?
Silicon N-Channel Power MOSFET, Power Switching; Published: 30-Oct-2009; DatasheetVersion: Rev.3.00, Jun-2006; PackageVersion: Jan-2005; PackageReference: PLZZ0004CA-A; Publisher: Altium Limited; PackageDescription: 3-Pin Plastic SOT-89 Package 1.5 mm Pitch, 4 mm Lead Span; Code_JEITA: SC-62; Code_IPC: SOT89; ComponentLink1Description: Manufacturer Link; ComponentLink1URL: http://sg.renesas.com/fmwk.jsp?cnt=discrete_category_landing.jsp&fp=/products/discrete/; ComponentLink2Description: Datasheet; ComponentLink2URL: http://documentation.renesas.com/eng/products/transistor/rej03g1269_rqk0301fgdqsds.pdf; ComponentLink3Description: Packaging Specification; ComponentLink3URL: http://sg.renesas.com/media/products/common_info/package/pdf/transistor/code/plzz0004ca_a.pdf
footprint PLZZ0004CA-A_N (SOT89, 3-Leads, Body 4.5x2.5 mm, Pitch 1.5mm, Lead Span 4mm, IPC Medium Density)
footprint PLZZ0004CA-A_L (SOT89, 3-Leads, Body 4.5x2.5 mm, Pitch 1.5mm, Lead Span 4mm, IPC High Density)
footprint PLZZ0004CA-A_M (SOT89, 3-Leads, Body 4.5x2.5 mm, Pitch 1.5mm, Lead Span 4mm, IPC Low Density)
pins: 1 G, 2 D, 3 S

## RQK0302GGDQA
designator Q?
Silicon N-Channel MOSFET, Power Switching; Published: 30-Oct-2009; DatasheetVersion: Rev.4.00, Jun-2006; PackageVersion: Sep-2005; PackageReference: PLSP0003ZB-A; Publisher: Altium Limited; PackageDescription: 3-Pin Plastic SOT-23 Package 0.95 mm Pitch, 2.8 mm Lead Span - Alternate Lead Configuration; Code_JEITA: SC-59A; ComponentLink1Description: Manufacturer Link; ComponentLink1URL: http://sg.renesas.com/fmwk.jsp?cnt=discrete_category_landing.jsp&fp=/products/discrete/; ComponentLink2Description: Datasheet; ComponentLink2URL: http://documentation.renesas.com/eng/products/transistor/rej03g1275_rqk0302ggdqads.pdf; ComponentLink3Description: Packaging Specification; ComponentLink3URL: http://sg.renesas.com/media/products/common_info/package/pdf/transistor/code/plsp0003zb_a.pdf
footprint PLSP0003ZB-A_N (SOT23, 3-Leads, Body 2.9x1.5mm, Pitch 0.95mm, Lead Span 2.8mm - Alternate Lead Configuration, IPC Medium Density)
footprint PLSP0003ZB-A_L (SOT23, 3-Leads, Body 2.9x1.5mm, Pitch 0.95mm, Lead Span 2.8mm - Alternate Lead Configuration, IPC High Density)
footprint PLSP0003ZB-A_M (SOT23, 3-Leads, Body 2.9x1.5mm, Pitch 0.95mm, Lead Span 2.8mm - Alternate Lead Configuration, IPC Low Density)
pins: 1 S, 2 G, 3 D

## RQK0302GGDQS
designator Q?
Silicon N-Channel Power MOSFET, Power Switching; Published: 30-Oct-2009; DatasheetVersion: Rev.3.00, Jun-2006; PackageVersion: Jan-2005; PackageReference: PLZZ0004CA-A; Publisher: Altium Limited; PackageDescription: 3-Pin Plastic SOT-89 Package 1.5 mm Pitch, 4 mm Lead Span; Code_JEITA: SC-62; Code_IPC: SOT89; ComponentLink1Description: Manufacturer Link; ComponentLink1URL: http://sg.renesas.com/fmwk.jsp?cnt=discrete_category_landing.jsp&fp=/products/discrete/; ComponentLink2Description: Datasheet; ComponentLink2URL: http://documentation.renesas.com/eng/products/transistor/rej03g1270_rqk0302ggdqsds.pdf; ComponentLink3Description: Packaging Specification; ComponentLink3URL: http://sg.renesas.com/media/products/common_info/package/pdf/transistor/code/plzz0004ca_a.pdf
footprint PLZZ0004CA-A_N (SOT89, 3-Leads, Body 4.5x2.5 mm, Pitch 1.5mm, Lead Span 4mm, IPC Medium Density)
footprint PLZZ0004CA-A_L (SOT89, 3-Leads, Body 4.5x2.5 mm, Pitch 1.5mm, Lead Span 4mm, IPC High Density)
footprint PLZZ0004CA-A_M (SOT89, 3-Leads, Body 4.5x2.5 mm, Pitch 1.5mm, Lead Span 4mm, IPC Low Density)
pins: 1 G, 2 D, 3 S

## RQK0303MGDQA
designator Q?
Silicon N-Channel MOSFET, Power Switching; Published: 30-Oct-2009; DatasheetVersion: Rev.4.00, Jun-2006; PackageVersion: Sep-2005; PackageReference: PLSP0003ZB-A; Publisher: Altium Limited; PackageDescription: 3-Pin Plastic SOT-23 Package 0.95 mm Pitch, 2.8 mm Lead Span - Alternate Lead Configuration; Code_JEITA: SC-59A; ComponentLink1Description: Manufacturer Link; ComponentLink1URL: http://sg.renesas.com/fmwk.jsp?cnt=discrete_category_landing.jsp&fp=/products/discrete/; ComponentLink2Description: Datasheet; ComponentLink2URL: http://documentation.renesas.com/eng/products/transistor/rej03g1276_rqk0303mgdqads.pdf; ComponentLink3Description: Packaging Specification; ComponentLink3URL: http://sg.renesas.com/media/products/common_info/package/pdf/transistor/code/plsp0003zb_a.pdf
footprint PLSP0003ZB-A_N (SOT23, 3-Leads, Body 2.9x1.5mm, Pitch 0.95mm, Lead Span 2.8mm - Alternate Lead Configuration, IPC Medium Density)
footprint PLSP0003ZB-A_L (SOT23, 3-Leads, Body 2.9x1.5mm, Pitch 0.95mm, Lead Span 2.8mm - Alternate Lead Configuration, IPC High Density)
footprint PLSP0003ZB-A_M (SOT23, 3-Leads, Body 2.9x1.5mm, Pitch 0.95mm, Lead Span 2.8mm - Alternate Lead Configuration, IPC Low Density)
pins: 1 S, 2 G, 3 D

## RQK0601AGDQS
designator Q?
Silicon N-Channel MOSFET, Power Switching; Published: 30-Oct-2009; DatasheetVersion: Rev.4.00, Jun-2006; PackageVersion: Jan-2005; PackageReference: PLZZ0004CA-A; Publisher: Altium Limited; PackageDescription: 3-Pin Plastic SOT-89 Package 1.5 mm Pitch, 4 mm Lead Span; Code_JEITA: SC-62; Code_IPC: SOT89; ComponentLink1Description: Manufacturer Link; ComponentLink1URL: http://sg.renesas.com/fmwk.jsp?cnt=discrete_category_landing.jsp&fp=/products/discrete/; ComponentLink2Description: Datasheet; ComponentLink2URL: http://documentation.renesas.com/eng/products/transistor/rej03g0575_rqk0601agdqsds.pdf; ComponentLink3Description: Packaging Specification; ComponentLink3URL: http://sg.renesas.com/media/products/common_info/package/pdf/transistor/code/plzz0004ca_a.pdf
footprint PLZZ0004CA-A_N (SOT89, 3-Leads, Body 4.5x2.5 mm, Pitch 1.5mm, Lead Span 4mm, IPC Medium Density)
footprint PLZZ0004CA-A_L (SOT89, 3-Leads, Body 4.5x2.5 mm, Pitch 1.5mm, Lead Span 4mm, IPC High Density)
footprint PLZZ0004CA-A_M (SOT89, 3-Leads, Body 4.5x2.5 mm, Pitch 1.5mm, Lead Span 4mm, IPC Low Density)
pins: 1 G, 2 D, 3 S

## RQK0603CGDQA
designator Q?
Silicon N-Channel MOSFET, Power Switching; Published: 30-Oct-2009; DatasheetVersion: Rev.4.00, Jun-2006; PackageVersion: Sep-2005; PackageReference: PLSP0003ZB-A; Publisher: Altium Limited; PackageDescription: 3-Pin Plastic SOT-23 Package 0.95 mm Pitch, 2.8 mm Lead Span - Alternate Lead Configuration; Code_JEITA: SC-59A; ComponentLink1Description: Manufacturer Link; ComponentLink1URL: http://sg.renesas.com/fmwk.jsp?cnt=discrete_category_landing.jsp&fp=/products/discrete/; ComponentLink2Description: Datasheet; ComponentLink2URL: http://documentation.renesas.com/eng/products/transistor/rej03g1277_rqk0603cgdqads.pdf; ComponentLink3Description: Packaging Specification; ComponentLink3URL: http://sg.renesas.com/media/products/common_info/package/pdf/transistor/code/plsp0003zb_a.pdf
footprint PLSP0003ZB-A_N (SOT23, 3-Leads, Body 2.9x1.5mm, Pitch 0.95mm, Lead Span 2.8mm - Alternate Lead Configuration, IPC Medium Density)
footprint PLSP0003ZB-A_L (SOT23, 3-Leads, Body 2.9x1.5mm, Pitch 0.95mm, Lead Span 2.8mm - Alternate Lead Configuration, IPC High Density)
footprint PLSP0003ZB-A_M (SOT23, 3-Leads, Body 2.9x1.5mm, Pitch 0.95mm, Lead Span 2.8mm - Alternate Lead Configuration, IPC Low Density)
pins: 1 S, 2 G, 3 D

## RQK0603CGDQS
designator Q?
Silicon N-Channel MOSFET, Power Switching; Published: 30-Oct-2009; DatasheetVersion: Rev.4.00, Jun-2006; PackageVersion: Jan-2005; PackageReference: PLZZ0004CA-A; Publisher: Altium Limited; PackageDescription: 3-Pin Plastic SOT-89 Package 1.5 mm Pitch, 4 mm Lead Span; Code_JEITA: SC-62; Code_IPC: SOT89; ComponentLink1Description: Manufacturer Link; ComponentLink1URL: http://sg.renesas.com/fmwk.jsp?cnt=discrete_category_landing.jsp&fp=/products/discrete/; ComponentLink2Description: Datasheet; ComponentLink2URL: http://documentation.renesas.com/eng/products/transistor/rej03g0577_rqk0603cgdqsds.pdf; ComponentLink3Description: Packaging Specification; ComponentLink3URL: http://sg.renesas.com/media/products/common_info/package/pdf/transistor/code/plzz0004ca_a.pdf
footprint PLZZ0004CA-A_N (SOT89, 3-Leads, Body 4.5x2.5 mm, Pitch 1.5mm, Lead Span 4mm, IPC Medium Density)
footprint PLZZ0004CA-A_L (SOT89, 3-Leads, Body 4.5x2.5 mm, Pitch 1.5mm, Lead Span 4mm, IPC High Density)
footprint PLZZ0004CA-A_M (SOT89, 3-Leads, Body 4.5x2.5 mm, Pitch 1.5mm, Lead Span 4mm, IPC Low Density)
pins: 1 G, 2 D, 3 S

## RQK0604IGDQA
designator Q?
Silicon N-Channel MOSFET, Power Switching; Published: 30-Oct-2009; DatasheetVersion: Rev.1.00, Jan-2007; PackageVersion: Sep-2005; PackageReference: PLSP0003ZB-A; Publisher: Altium Limited; PackageDescription: 3-Pin Plastic SOT-23 Package 0.95 mm Pitch, 2.8 mm Lead Span - Alternate Lead Configuration; Code_JEITA: SC-59A; ComponentLink1Description: Manufacturer Link; ComponentLink1URL: http://sg.renesas.com/fmwk.jsp?cnt=discrete_category_landing.jsp&fp=/products/discrete/; ComponentLink2Description: Datasheet; ComponentLink2URL: http://documentation.renesas.com/eng/products/transistor/rej03g1496_rqk0604igdqads.pdf; ComponentLink3Description: Packaging Specification; ComponentLink3URL: http://sg.renesas.com/media/products/common_info/package/pdf/transistor/code/plsp0003zb_a.pdf
footprint PLSP0003ZB-A_N (SOT23, 3-Leads, Body 2.9x1.5mm, Pitch 0.95mm, Lead Span 2.8mm - Alternate Lead Configuration, IPC Medium Density)
footprint PLSP0003ZB-A_L (SOT23, 3-Leads, Body 2.9x1.5mm, Pitch 0.95mm, Lead Span 2.8mm - Alternate Lead Configuration, IPC High Density)
footprint PLSP0003ZB-A_M (SOT23, 3-Leads, Body 2.9x1.5mm, Pitch 0.95mm, Lead Span 2.8mm - Alternate Lead Configuration, IPC Low Density)
pins: 1 S, 2 G, 3 D

## RQK0605JGDQA
designator Q?
Silicon N-Channel MOSFET, Power Switching; Published: 30-Oct-2009; DatasheetVersion: Rev.4.00, Jun-2006; PackageVersion: Sep-2005; PackageReference: PLSP0003ZB-A; Publisher: Altium Limited; PackageDescription: 3-Pin Plastic SOT-23 Package 0.95 mm Pitch, 2.8 mm Lead Span - Alternate Lead Configuration; Code_JEITA: SC-59A; ComponentLink1Description: Manufacturer Link; ComponentLink1URL: http://sg.renesas.com/fmwk.jsp?cnt=discrete_category_landing.jsp&fp=/products/discrete/; ComponentLink2Description: Datasheet; ComponentLink2URL: http://documentation.renesas.com/eng/products/transistor/rej03g1278_rqk0605jgdqads.pdf; ComponentLink3Description: Packaging Specification; ComponentLink3URL: http://sg.renesas.com/media/products/common_info/package/pdf/transistor/code/plsp0003zb_a.pdf
footprint PLSP0003ZB-A_N (SOT23, 3-Leads, Body 2.9x1.5mm, Pitch 0.95mm, Lead Span 2.8mm - Alternate Lead Configuration, IPC Medium Density)
footprint PLSP0003ZB-A_L (SOT23, 3-Leads, Body 2.9x1.5mm, Pitch 0.95mm, Lead Span 2.8mm - Alternate Lead Configuration, IPC High Density)
footprint PLSP0003ZB-A_M (SOT23, 3-Leads, Body 2.9x1.5mm, Pitch 0.95mm, Lead Span 2.8mm - Alternate Lead Configuration, IPC Low Density)
pins: 1 S, 2 G, 3 D